# Altium footprint library USBtoRS485.PcbLib: 8 footprints
Each footprint in its own frame and in the unit in brackets; x right, y up, seen from the top. Pads: shape width x height; smd on the part's side, far side on the other; paste and mask are expansions set on the pad; w line width, h text height; cw(c..) or ccw(c..) is an arc to the next point about the centre after c.
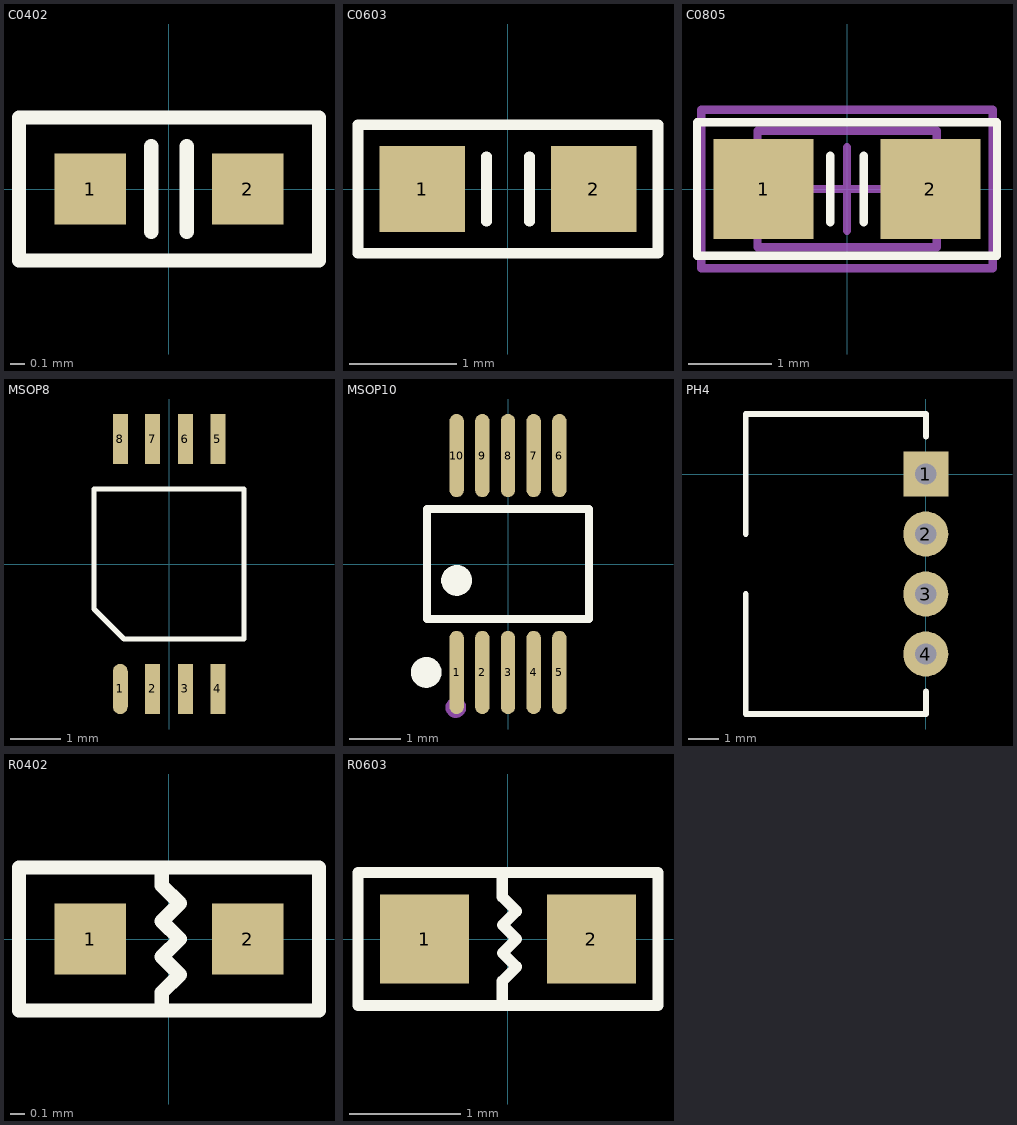
[diagram p0: the footprints below, top view; thin cyan lines are the x and y axes]

## C0402 [mm]
pads (2):
  rect 0.5x0.5 smd: 1(-0.55,0) 2(0.55,0)
Top Overlay:
  lines w0.1: -0.125,-0.3 -0.125,0.3 ; 0.125,-0.3 0.125,0.3 ; -1.05,-0.5 -1.05,0.5 1.05,0.5 1.05,-0.5 -1.05,-0.5
3D body "0402.STEP": height 0.56, standoff 0, extent -0.5,-0.25 0.5,0.25

## C0603 [mm]
pads (2):
  rect 0.8x0.8 smd: 1(-0.8,0) 2(0.8,0)
Top Overlay:
  lines w0.1: -0.2,-0.3 -0.2,0.3 ; 0.2,-0.3 0.2,0.3 ; -1.4,-0.6 1.4,-0.6 1.4,0.6 -1.4,0.6 -1.4,-0.6
3D body "0603.STEP": height 0.9, standoff 0, extent -0.8,-0.405 0.8,0.405

## C0805 [mm] "Chip Resistor, Body 2.0x1.2mm, IPC Medium Density"
height 0.7
pads (2):
  rect 1.2x1.2 smd: 1(-1,0) 2(1,0)
Top Overlay:
  lines w0.1: -0.2,-0.4 -0.2,0.4 ; 0.2,-0.4 0.2,0.4 ; -1.8,-0.8 1.8,-0.8 1.8,0.8 -1.8,0.8 -1.8,-0.8
Mechanical 13:
  lines w0.1: -1.075,-0.7 1.075,-0.7 1.075,0.7 -1.075,0.7 -1.075,-0.7
Mechanical 15:
  lines w0.1: -0.5,0 0.5,0 ; 0,-0.5 0,0.5 ; -1.75,-0.95 1.75,-0.95 1.75,0.95 -1.75,0.95 -1.75,-0.95
3D body: height 0.7, standoff 0, extent -1.075,-0.7 1.075,0.7

## MSOP8 [mm]
pads (8):
  oval 0.3x1 smd: 1(-0.975,-2.5)
  rect 0.3x1 smd: 2(-0.325,-2.5) 3(0.325,-2.5) 4(0.975,-2.5) 5(0.975,2.5) 6(0.325,2.5) 7(-0.325,2.5) 8(-0.975,2.5)
Top Overlay:
  lines w0.1: -1.5,-0.9 -0.9,-1.5 1.5,-1.5 1.5,1.5 -1.5,1.5 -1.5,-0.9
3D body: height 1.1, standoff 0, extent -1.5,-2.4 1.5,2.5

## MSOP10 [mm]
pads (10):
  oval 0.28x1.62 smd: 1(-1,-2.11) 2(-0.5,-2.11) 3(0,-2.11) 4(0.5,-2.11) 5(1,-2.11) 6(1,2.11) 7(0.5,2.11) 8(0,2.11) 9(-0.5,2.11) 10(-1,2.11)
Top Overlay:
  circle w0.3: c-1.592,-2.11 r0.15
  circle w0.3: c-1,-0.319 r0.15
  lines w0.152: -1.576,-1.071 1.576,-1.071 1.576,1.071 -1.576,1.071 -1.576,-1.071
Mechanical 15:
  circle w0.2: c-1.016,-2.794 r0.1
3D body: height 1.1, standoff 0, extent -1.75,-2.25 1.75,2

## PH4 [mm]
height 4.7
pads (4):
  rect 1.5x1.5 hole 0.7: 1(0,0)
  round 1.5 hole 0.7: 2(0,-2) 3(0,-4) 4(0,-6)
Top Overlay:
  lines w0.2: -6,-4 -6,-8 0,-8 0,-7.25 ; -6,-2 -6,2 0,2 0,1.25

## R0402 [mm]
pads (2):
  rect 0.5x0.5 smd: 1(-0.55,0) 2(0.55,0)
Top Overlay:
  lines w0.1: -0.05,-0.5 -0.05,-0.375 0.075,-0.25 -0.05,-0.125 0.075,0 -0.05,0.125 0.075,0.25 -0.05,0.375 -0.05,0.5 ; -1.05,-0.5 -1.05,0.5 1.05,0.5 1.05,-0.5 -1.05,-0.5
3D body "0402.STEP": height 0.56, standoff 0, extent -0.5,-0.25 0.5,0.25

## R0603 [mm]
pads (2):
  rect 0.8x0.8 smd: 1(-0.75,0) 2(0.75,0)
Top Overlay:
  lines w0.1: -0.051,-0.6 -0.051,-0.376 0.075,-0.25 -0.05,-0.125 0.075,0 -0.05,0.125 0.075,0.25 -0.051,0.376 -0.051,0.6 ; 1.347,-0.6 -1.35,-0.6 -1.35,0.6 1.347,0.6 ; 1.35,-0.6 1.35,0.6
3D body "0603.STEP": height 0.9, standoff 0, extent -0.8,-0.405 0.8,0.405